# Altium schematic symbol library aiskylab-06IC-02Memory.SchLib: 21 symbols (part 4 of 4)
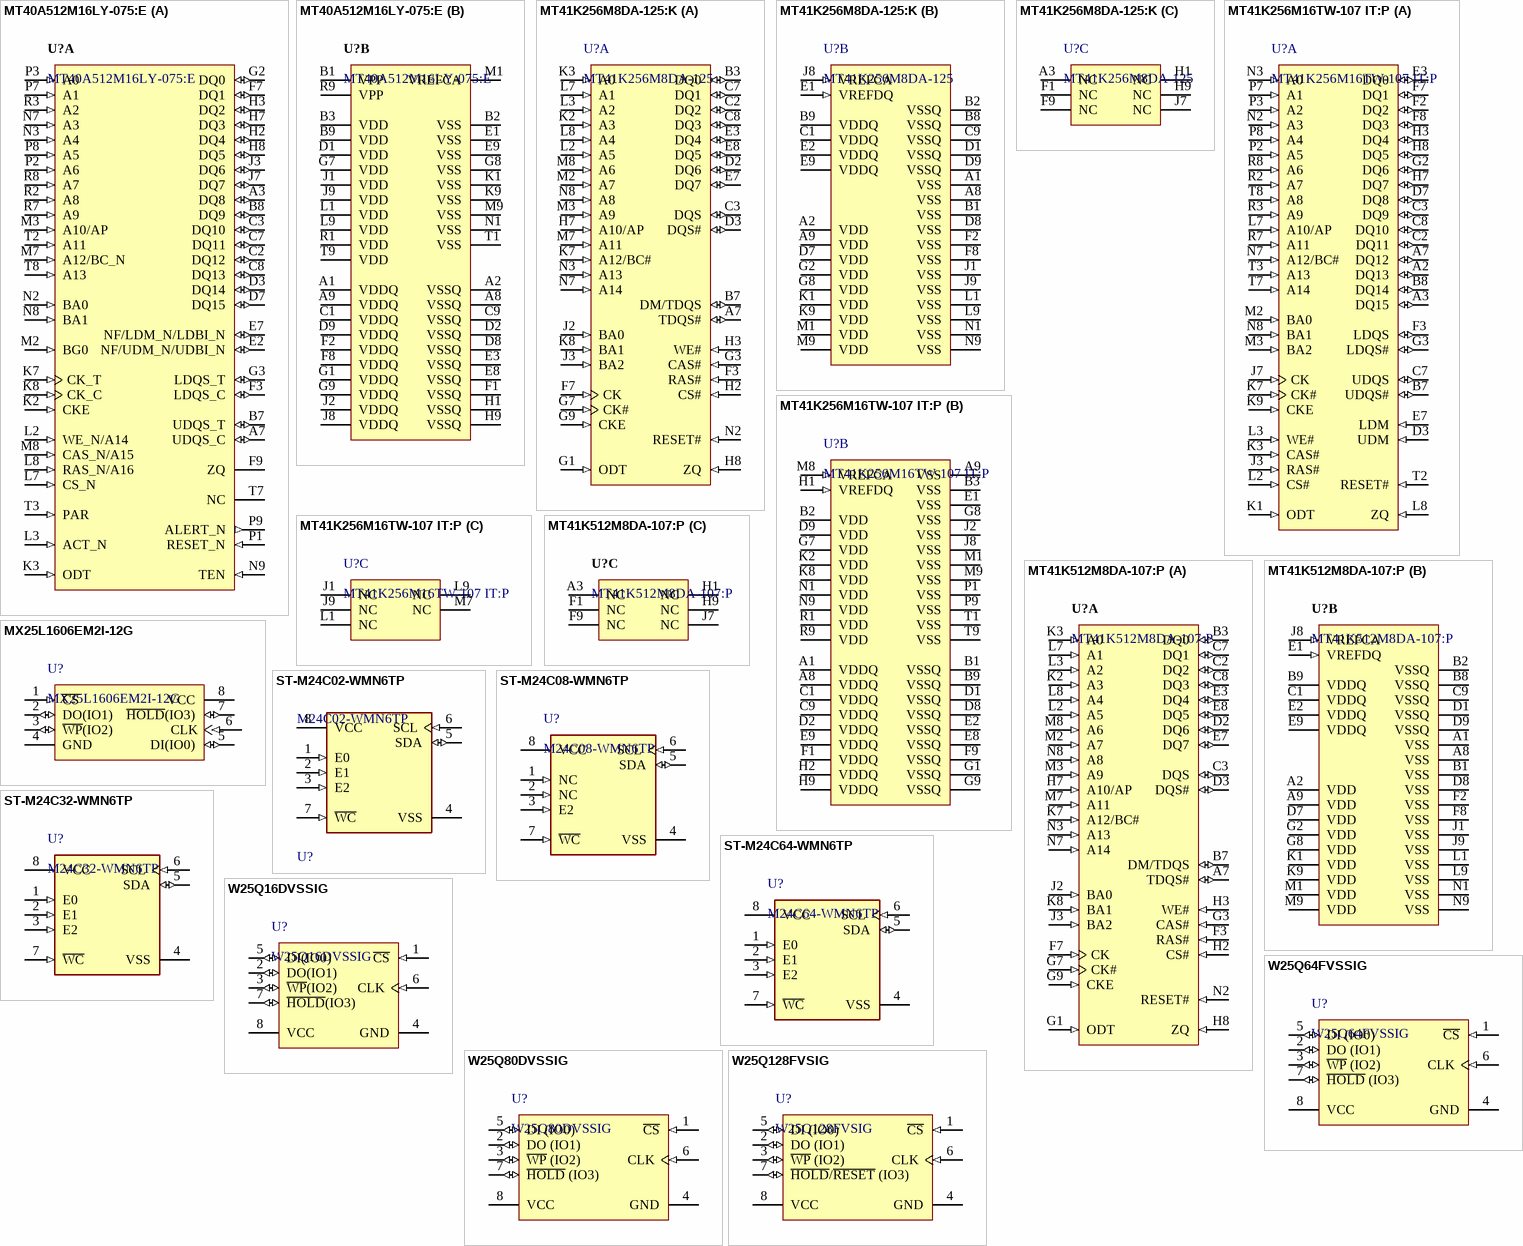
[diagram p4: symbols MT40A512M16LY-075:E to W25Q128FVSIG]

## W25Q16DVSSIG
designator U?
IC FLASH 16MBIT 104MHZ 8SOIC; Manufacturer: Winbond; Interface Type: Serial(SPI); Rad Hardened: No; Programmable: Yes; Supply Current: 18mA; Number of Words: 2M; Density: 16777216Bit; Word Size: 8b; Sync/Async: Synchronous; Cell Type: NOR; Operating Supply Voltage (Min): 2.7V; Boot Type: Bottom/Top; Address Bus: 24b; Program/Erase Volt (Typ): 2.7to3.6V; Access Time (Max): 7ns; Operating Supply Voltage (Max): 3.6V; Operating Supply Voltage (Typ): 3/3.3V; Mounting: SurfaceMount; Datasheet Version: Rev. D, 10/2012; Manufacturer URL: http://www.winbond.com/hq/index.html?__locale=en; Operating Temperature (Min): -40C; Operating Temperature (Max): 85C; Pin Count: 8; Package Type: SOICW; Datasheet URL: https://ciiva.com/datasheet-click-14728450?src=ciiva&sig=bd4f4644; Operating Temp Range: -40Cto85C; Operating Temperature Classification: Industrial
footprint WINB-SOIC-8_L (SOIC, 8-Leads, Body 5.4x5.4mm, Pitch 1.27mm, IPC High Density)
footprint WINB-SOIC-8_M (SOIC, 8-Leads, Body 5.4x5.4mm, Pitch 1.27mm, IPC Low Density)
footprint WINB-SOIC-8_N (SOIC, 8-Leads, Body 5.4x5.4mm, Pitch 1.27mm, IPC Medium Density)
pins: 1 ~{CS} (in) "Chip Select Input", 2 DO(IO1) (io) "Data Output (Data Input Output)", 3 ~{WP}(IO2) (io) "Write Protect Input (Data Input Output)", 4 GND (power) "Ground", 5 DI(IO0) (io) "Data Input (Data Input Output)", 6 CLK (in) "Serial Clock Input", 7 ~{HOLD}(IO3) (io) "Hold Input (Data Input Output)", 8 VCC (power) "Power Supply"

## W25Q64FVSSIG
designator U?
3V 64M-Bit Serial Flash Memory with Dual/Quad SPI & QPI, 2.7 to 3.6 V, -40 to 85 degC, 8-Pin SOIC, RoHS, Tape and Reel; Manufacturer: Winbond; Boot Type: Bottom/Top; Word Size: 8b; Cell Type: NOR; Operating Supply Voltage (Min): 2.7V; Operating Supply Voltage (Max): 3.6V; Rad Hardened: No; Density: 67108864Bit; Address Bus: 1b; Supply Current: 40mA; Sync/Async: Synchronous; Number of Words: 8M; Programmable: Yes; Operating Supply Voltage (Typ): 3/3.3V; Access Time (Max): 8.5ns; Interface Type: Serial(SPI); Operating Temperature Classification: Industrial; Datasheet Version: Rev. D, 12/2011; Operating Temp Range: -40Cto85C; Operating Temperature (Max): 85C; Pin Count: 8; Mounting: SurfaceMount; Program/Erase Volt (Typ): 2.7to3.6V; Operating Temperature (Min): -40C; Package Description: 8-Pin Small Outline Integrated Circuit, Body 5.28 x 5.28 mm, Pitch 1.27 mm; Datasheet URL: https://datasheet.ciiva.com/15126/getdatasheetpartid-552937-15126648.pdf; Package Reference: SS-8; Manufacturer URL: http://www.winbond.com/hq/index.html?__locale=en; Package Type: SOIC; ComponentLink1Description: Datasheet; ComponentLink1URL: https://datasheet.ciiva.com/15126/getdatasheetpartid-552937-15126648.pdf
footprint WINB-SOIC-8_N (SOIC, 8-Leads, Body 5.4x5.4mm, Pitch 1.27mm, IPC Medium Density)
footprint WINB-SOIC-8_L (SOIC, 8-Leads, Body 5.4x5.4mm, Pitch 1.27mm, IPC High Density)
footprint WINB-SOIC-8_M (SOIC, 8-Leads, Body 5.4x5.4mm, Pitch 1.27mm, IPC Low Density)
pins: 1 ~{CS} (in) "Chip Select Input.", 2 DO (IO1) (io) "Data Output (Data Input Output 1).", 3 ~{WP} (IO2) (io) "Write Protect Input (Data Input Output 2).", 4 GND (power) "Ground.", 5 DI (IO0) (io) "Data Input (Data Input Output 0).", 6 CLK (in) "Serial Clock Input.", 7 ~{HOLD} (IO3) (io) "Hold Input (Data Input Output 3).", 8 VCC (power) "Power Supply."

## W25Q80DVSSIG
designator U?
IC FLASH 8M SPI 104MHZ 8SOIC; Manufacturer: Winbond; Memory Type: FLASH,NOR; Interface: SPI,Serial; Supplier 1: Digi-Key; Manufacturer Part Number: W25Q80DVSSIG; RoHS: Yes; Category: Flash; Stock 1: 6771; Pricing 1: 1=0.41000, 10=0.40100, 25=0.37240, 50=0.37040, 100=0.32890, 250=0.32468, 500=0.31978, 1000=0.31124, 5000=0.27979 (USD); Case/Package: SOIC; Min Operating Temperature: -40°C; Max Operating Temperature: 85°C; Packaging: Rail/Tube; Frequency: 104MHz; ComponentLink1URL: http://www.winbond.com/resource-files/w25q80dv%20dl_revh_10022015.pdf?src-supplier=Digi-Key; ComponentLink1Description: http://www.winbond.com/resource-files/w25q80dv%20dl_revh_10022015.pdf?src-supplier=Digi-Key; Supplier Part Number 1: W25Q80DVSSIG-ND
footprint WINB-SOIC-8_L (SOIC, 8-Leads, Body 5.4x5.4mm, Pitch 1.27mm, IPC High Density)
footprint WINB-SOIC-8_M (SOIC, 8-Leads, Body 5.4x5.4mm, Pitch 1.27mm, IPC Low Density)
footprint WINB-SOIC-8_N (SOIC, 8-Leads, Body 5.4x5.4mm, Pitch 1.27mm, IPC Medium Density)
pins: 1 ~{CS} (in) "Chip Select Input.", 2 DO (IO1) (io) "Data Output (Data Input Output 1).", 3 ~{WP} (IO2) (io) "Write Protect Input (Data Input Output 2).", 4 GND (power) "Ground.", 5 DI (IO0) (io) "Data Input (Data Input Output 0).", 6 CLK (in) "Serial Clock Input.", 7 ~{HOLD} (IO3) (io) "Hold Input (Data Input Output 3).", 8 VCC (power) "Power Supply."

## W25Q128FVSIG
designator U?
3V 128M-Bit Serial Flash Memory with Dual/Quad SPI & QPI, 2.7 to 3.6 V, -40 to 85 degC, 8-Pin SOIC, RoHS, Tape and Reel; Manufacturer: Winbond; Number of Words: 16777216; Address Bus: 24b; Word Size: 8b; Boot Type: NotRequired; Supply Current: 20mA; Operating Supply Voltage (Max): 3.6V; Sync/Async: Synchronous; Rad Hardened: No; Interface Type: Serial(SPI); Access Time (Max): 7ns; Operating Supply Voltage (Min): 2.7V; Operating Supply Voltage (Typ): 3/3.3V; Programmable: Yes; Density: 134217728Bit; Cell Type: NOR; Package Description: 8-Pin Small Outline Integrated Circuit, Body 5.28 x 5.28 mm, Pitch 1.27 mm; Datasheet URL: http://download.siliconexpert.com/pdfs/2015/11/30/6/42/17/890/win_/manual/3w25q128fv20rev.l2008242015.pdf; Package Reference: SS-8; Package Type: SOICW; Datasheet Version: Rev. L, 08/2015; Manufacturer URL: http://www.winbond.com/hq/index.html?__locale=en; Pin Count: 8; Operating Temperature Classification: Industrial; Operating Temperature (Min): -40C; Program/Erase Volt (Typ): 2.7to3.6V; Operating Temperature (Max): 85C; Mounting: SurfaceMount; Operating Temp Range: -40Cto85C; ComponentLink1Description: Datasheet; ComponentLink1URL: http://download.siliconexpert.com/pdfs/2015/11/30/6/42/17/890/win_/manual/3w25q128fv20rev.l2008242015.pdf
footprint WINB-SOIC-8_N (SOIC, 8-Leads, Body 5.4x5.4mm, Pitch 1.27mm, IPC Medium Density)
footprint WINB-SOIC-8_L (SOIC, 8-Leads, Body 5.4x5.4mm, Pitch 1.27mm, IPC High Density)
footprint WINB-SOIC-8_M (SOIC, 8-Leads, Body 5.4x5.4mm, Pitch 1.27mm, IPC Low Density)
pins: 1 ~{CS} (in) "Chip Select Input.", 2 DO (IO1) (io) "Data Output (Data Input Output 1).", 3 ~{WP} (IO2) (io) "Write Protect Input (Data Input Output 2).", 4 GND (power) "Ground.", 5 DI (IO0) (io) "Data Input (Data Input Output 0).", 6 CLK (in) "Serial Clock Input.", 7 ~{HOLD}/~{RESET} (IO3) (io) "Hold or Reset Input (Data Input Output 3).", 8 VCC (power) "Power Supply."